# EAGLE library part 691311500124 (library Wurth_Elektronik_Electromechanic_Terminal_Blocks_Connectors_rev16b)
WR-TBL Serie 311 - 5.08 mm Close Vertical PCB Header , 24 Pins=>Code : Con_TBL_Pluggable_5.08_PCB_THT_Simple_V_691311500124 <http://katalog.we-online.de/media/images/eican/Con_TBL_Pluggable_5.08_PCB_THT_Simple_V_6913115001xx_pf2.jpg> Details see: http://katalog.we-online.de/en/em/691_311_500_1xx Created 2014-06-23, Karrer Zheng 2014 (C) Würth Elektronik
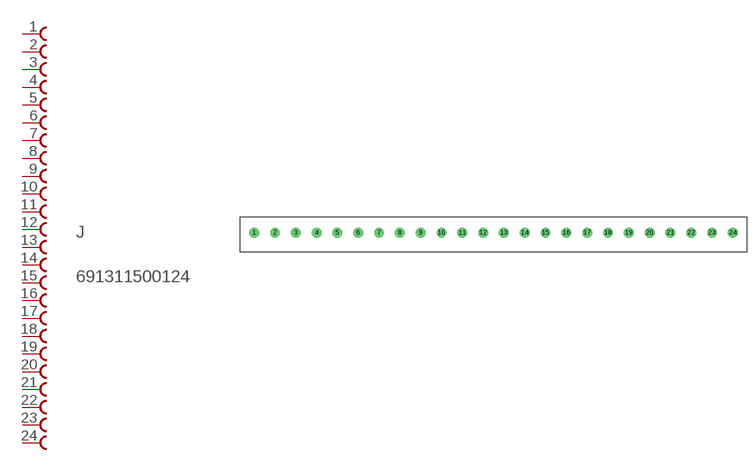
[diagram p89: symbol with the pads of 691311500124; footprint 691311500124]

Designator prefix J

## 691311500124  [691311500124]
1  1  pas
2  2  pas
3  3  pas
4  4  pas
5  5  pas
6  6  pas
7  7  pas
8  8  pas
9  9  pas
10  10  pas
11  11  pas
12  12  pas
13  13  pas
14  14  pas
15  15  pas
16  16  pas
17  17  pas
18  18  pas
19  19  pas
20  20  pas
21  21  pas
22  22  pas
23  23  pas
24  24  pas

## Footprint 691311500124 (pad centres in mm)
WR-TBL Serie 311 - 5.08 mm Close Vertical PCB Header , 24 Pins
drill 1.6: 1 -111.76,0; 2 -106.68,0; 3 -101.6,0; 4 -96.52,0; 5 -91.44,0; 6 -86.36,0; 7 -81.28,0; 8 -76.2,0; 9 -71.12,0; 10 -66.04,0; 11 -60.96,0; 12 -55.88,0; 13 -50.8,0; 14 -45.72,0; 15 -40.64,0; 16 -35.56,0; 17 -30.48,0; 18 -25.4,0; 19 -20.32,0; 20 -15.24,0; 21 -10.16,0; 22 -5.08,0; 23 0,0; 24 5.08,0